# Altium footprint library DFN.PcbLib: 1 footprints
Each footprint in its own frame and in the unit in brackets; x right, y up, seen from the top. Pads: shape width x height; smd on the part's side, far side on the other; paste and mask are expansions set on the pad; w line width, h text height; cw(c..) or ccw(c..) is an arc to the next point about the centre after c.
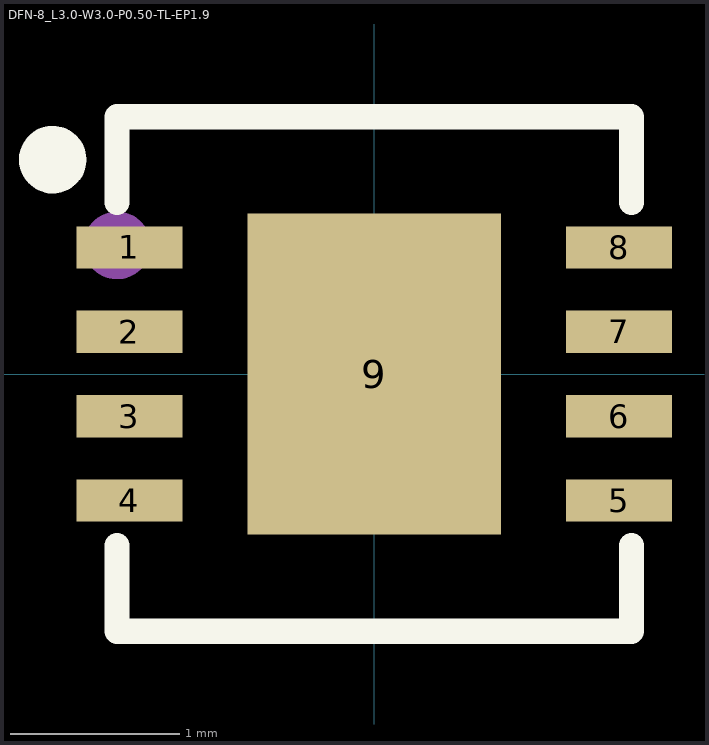
[diagram p0: the footprint, top view; thin cyan lines are the x and y axes]

## DFN-8_L3.0-W3.0-P0.50-TL-EP1.9 [mm]
pads (9):
  rect 0.63x0.25 smd mask+0.051: 1(-1.45,0.75) 2(-1.45,0.25) 3(-1.45,-0.25) 4(-1.45,-0.75) 5(1.45,-0.75) 6(1.45,-0.25) 7(1.45,0.25) 8(1.45,0.75)
  rect 1.5x1.9 smd mask+0.051: 9(0,0)
Top Overlay:
  circle w0.2: c-1.905,1.27 r0.1
  lines w0.15: -1.524,-1.016 -1.524,-1.524 1.524,-1.524 1.524,-1.016 ; -1.524,1.016 -1.524,1.524 1.524,1.524 1.524,1.016
Mechanical 6:
  circle w0.2: c-1.524,0.762 r0.1